# EAGLE library part DOG-M162 (library MyComponents)
LCD display DOG-SERIE 3,3V. Controlleer ST7036 for 4-/8-BIT, SPI.
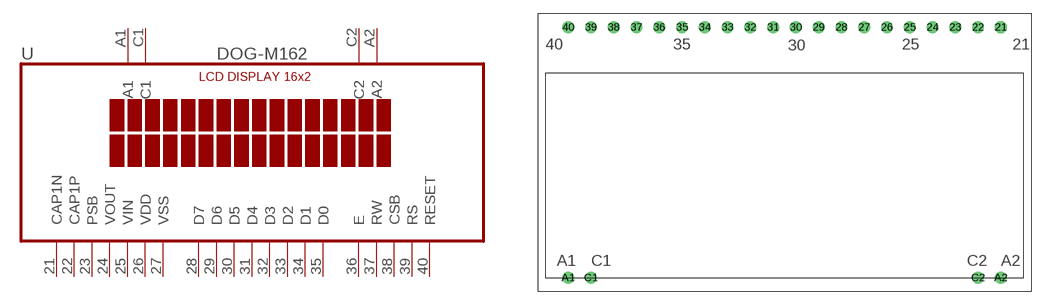
[diagram p1: symbol with the pads of DOGM162; footprint DOGM162]

Designator prefix -

## DOG-M162  [DOGM162]
21  CAP1N
22  CAP1P
23  PSB  pwr
24  VOUT
25  VIN
26  VDD  pwr
27  VSS  pwr
28  D7
29  D6
30  D5
31  D4
32  D3
33  D2
34  D1
35  D0
36  E
37  RW
38  CSB
39  RS
40  RESET
A1  A1
A2  A2
C1  C1
C2  C2

## Footprint DOGM162 (pad centres in mm)
LCD display DOG-SERIE 3,3V. Controlleer ST7036 for 4-/8-BIT, SPI.
drill 0.813 octagon: 21 24.13,13.97
drill 0.813: 22 21.59,13.97; 23 19.05,13.97; 24 16.51,13.97; 25 13.97,13.97; 26 11.43,13.97; 27 8.89,13.97; 28 6.35,13.97; 29 3.81,13.97; 30 1.27,13.97; 31 -1.27,13.97; 32 -3.81,13.97; 33 -6.35,13.97; 34 -8.89,13.97; 35 -11.43,13.97; 36 -13.97,13.97; 37 -16.51,13.97; 38 -19.05,13.97; 39 -21.59,13.97; 40 -24.13,13.97; A1 -24.13,-13.97; A2 24.13,-13.97; C1 -21.59,-13.97; C2 21.59,-13.97